# EAGLE library part AZ9571 (library Zettler)
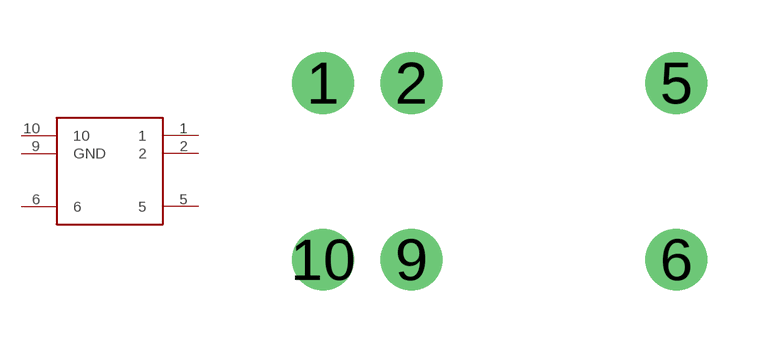
[diagram p0: symbol with the pads of AZ9571; footprint AZ9571]

Designator prefix -

## AZ9571AZ9571  [AZ9571]
1  1
2  2
5  5
6  6
9  GND  pwr
10  10

## Footprint AZ9571 (pad centres in mm)
drill 0.7 pad 1.778: 1 -5.08,2.54; 2 -2.54,2.54; 5 5.08,2.54; 6 5.08,-2.54; 9 -2.54,-2.54; 10 -5.08,-2.54